# EAGLE library part RESISTOR_QUAD_ARRAY (library mfpassives)
Library: MF_Passives Description: Device for Quad Resistor Arrays. Manufacture part number (MPN), Voltage, Tolerance, and Wattage Rating can be added via Attributes, Check https://factory.macrofab.com/parts for the house parts list.
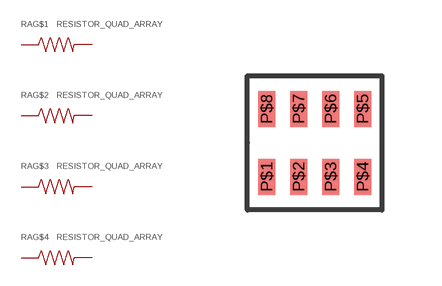
[diagram p0: symbol with the pads of RA1206; footprint RA1206]

Designator prefix RA; gates G$1=RESISTOR_QUAD_ARRAY G$2=RESISTOR_QUAD_ARRAY G$3=RESISTOR_QUAD_ARRAY G$4=RESISTOR_QUAD_ARRAY

## RESISTOR_QUAD_ARRAY_A1206 (POPULATE: 1), RESISTOR_QUAD_ARRAY_10K_A1206 (HOUSEPART: YES; MPN: MF-RES-ARRAY-10K; POPULATE: 1; TOLERANCE: 5%; URL: https://factory.macrofab.com/part/MF-RES-ARRAY-10K; VALUE: MF-RES-ARRAY-10K; VOLTAGE: 50V; WATTAGE: 62mW)  [RA1206]
P$1  G$1:P$1  pas
P$2  G$2:P$1  pas
P$3  G$3:P$1  pas
P$4  G$4:P$1  pas
P$5  G$4:P$2  pas
P$6  G$3:P$2  pas
P$7  G$2:P$2  pas
P$8  G$1:P$2  pas

## Footprint RA1206 (pad centres in mm)
Description: Quad Resistor Array Package. Based on Bourns CAY16 series array resistors.
smd 0.42 x 0.9: P$1 -1.2,-0.85; P$2 -0.4,-0.85; P$3 0.4,-0.85; P$4 1.2,-0.85; P$5 1.2,0.85; P$6 0.4,0.85; P$7 -0.4,0.85; P$8 -1.2,0.85